# Altium schematic symbol library SCH - MCU - STM32 - ST MICROELECTRONICS STM32C031C(4-6)TX LQFP48.SchLib: 1 symbol
Pins are listed as number, name and electrical type; pins without a type are passive.

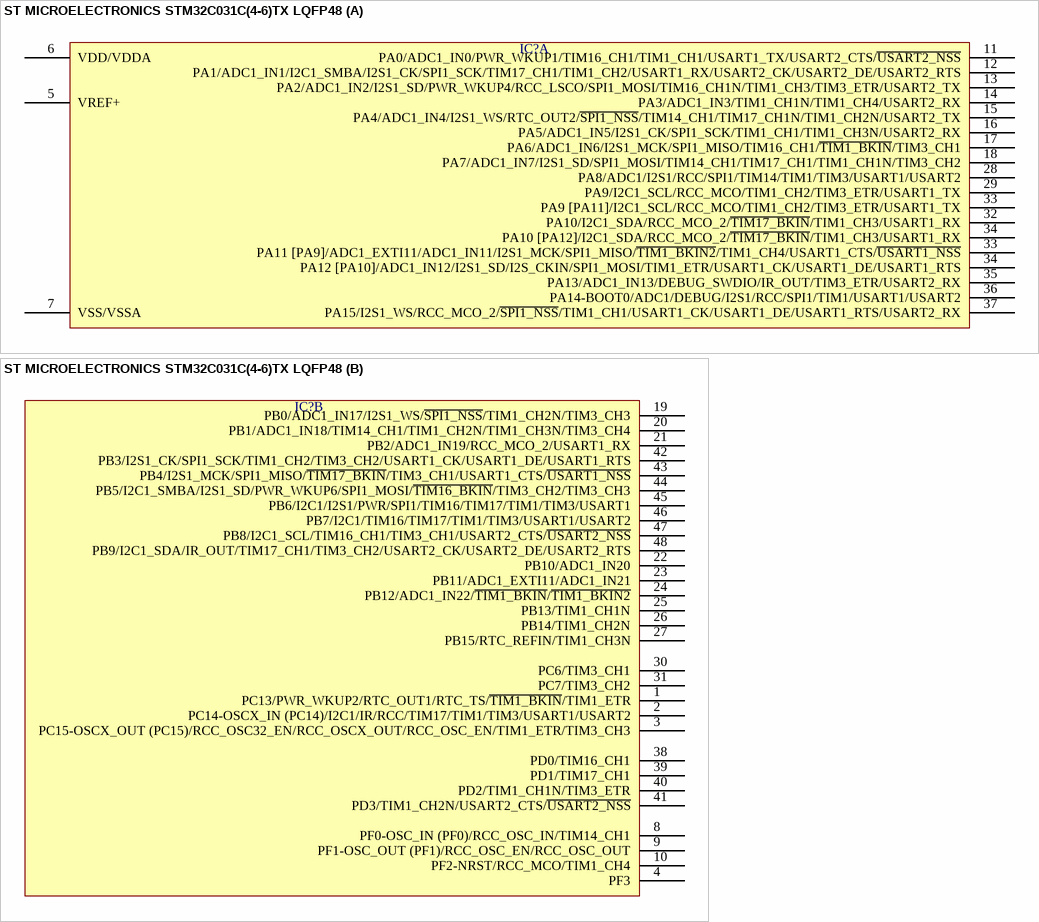
[diagram p0: symbol ST MICROELECTRONICS STM32C031C(4-6)TX LQFP48]

## ST MICROELECTRONICS STM32C031C(4-6)TX LQFP48
designator IC?  (value not drawn)
part A pins: 5 VREF+, 6 VDD/VDDA, 7 VSS/VSSA, 11 PA0/ADC1_IN0/PWR_WKUP1/TIM16_CH1/TIM1_CH1/USART1_TX/USART2_CTS/~{USART2_NSS}, 12 PA1/ADC1_IN1/I2C1_SMBA/I2S1_CK/SPI1_SCK/TIM17_CH1/TIM1_CH2/USART1_RX/USART2_CK/USART2_DE/USART2_RTS, 13 PA2/ADC1_IN2/I2S1_SD/PWR_WKUP4/RCC_LSCO/SPI1_MOSI/TIM16_CH1N/TIM1_CH3/TIM3_ETR/USART2_TX, 14 PA3/ADC1_IN3/TIM1_CH1N/TIM1_CH4/USART2_RX, 15 PA4/ADC1_IN4/I2S1_WS/RTC_OUT2/~{SPI1_NSS}/TIM14_CH1/TIM17_CH1N/TIM1_CH2N/USART2_TX, 16 PA5/ADC1_IN5/I2S1_CK/SPI1_SCK/TIM1_CH1/TIM1_CH3N/USART2_RX, 17 PA6/ADC1_IN6/I2S1_MCK/SPI1_MISO/TIM16_CH1/~{TIM1_BKIN}/TIM3_CH1, 18 PA7/ADC1_IN7/I2S1_SD/SPI1_MOSI/TIM14_CH1/TIM17_CH1/TIM1_CH1N/TIM3_CH2, 28 PA8/ADC1/I2S1/RCC/SPI1/TIM14/TIM1/TIM3/USART1/USART2, 29 PA9/I2C1_SCL/RCC_MCO/TIM1_CH2/TIM3_ETR/USART1_TX, 32 PA10/I2C1_SDA/RCC_MCO_2/~{TIM17_BKIN}/TIM1_CH3/USART1_RX, 33 PA9 [PA11]/I2C1_SCL/RCC_MCO/TIM1_CH2/TIM3_ETR/USART1_TX, 33 PA11 [PA9]/ADC1_EXTI11/ADC1_IN11/I2S1_MCK/SPI1_MISO/~{TIM1_BKIN2}/TIM1_CH4/USART1_CTS/~{USART1_NSS}, 34 PA10 [PA12]/I2C1_SDA/RCC_MCO_2/~{TIM17_BKIN}/TIM1_CH3/USART1_RX, 34 PA12 [PA10]/ADC1_IN12/I2S1_SD/I2S_CKIN/SPI1_MOSI/TIM1_ETR/USART1_CK/USART1_DE/USART1_RTS, 35 PA13/ADC1_IN13/DEBUG_SWDIO/IR_OUT/TIM3_ETR/USART2_RX, 36 PA14-BOOT0/ADC1/DEBUG/I2S1/RCC/SPI1/TIM1/USART1/USART2, 37 PA15/I2S1_WS/RCC_MCO_2/~{SPI1_NSS}/TIM1_CH1/USART1_CK/USART1_DE/USART1_RTS/USART2_RX
part B pins: 1 PC13/PWR_WKUP2/RTC_OUT1/RTC_TS/~{TIM1_BKIN}/TIM1_ETR, 2 PC14-OSCX_IN (PC14)/I2C1/IR/RCC/TIM17/TIM1/TIM3/USART1/USART2, 3 PC15-OSCX_OUT (PC15)/RCC_OSC32_EN/RCC_OSCX_OUT/RCC_OSC_EN/TIM1_ETR/TIM3_CH3, 4 PF3, 8 PF0-OSC_IN (PF0)/RCC_OSC_IN/TIM14_CH1, 9 PF1-OSC_OUT (PF1)/RCC_OSC_EN/RCC_OSC_OUT, 10 PF2-NRST/RCC_MCO/TIM1_CH4, 19 PB0/ADC1_IN17/I2S1_WS/~{SPI1_NSS}/TIM1_CH2N/TIM3_CH3, 20 PB1/ADC1_IN18/TIM14_CH1/TIM1_CH2N/TIM1_CH3N/TIM3_CH4, 21 PB2/ADC1_IN19/RCC_MCO_2/USART1_RX, 22 PB10/ADC1_IN20, 23 PB11/ADC1_EXTI11/ADC1_IN21, 24 PB12/ADC1_IN22/~{TIM1_BKIN}/~{TIM1_BKIN2}, 25 PB13/TIM1_CH1N, 26 PB14/TIM1_CH2N, 27 PB15/RTC_REFIN/TIM1_CH3N, 30 PC6/TIM3_CH1, 31 PC7/TIM3_CH2, 38 PD0/TIM16_CH1, 39 PD1/TIM17_CH1, 40 PD2/TIM1_CH1N/TIM3_ETR, 41 PD3/TIM1_CH2N/USART2_CTS/~{USART2_NSS}, 42 PB3/I2S1_CK/SPI1_SCK/TIM1_CH2/TIM3_CH2/USART1_CK/USART1_DE/USART1_RTS, 43 PB4/I2S1_MCK/SPI1_MISO/~{TIM17_BKIN}/TIM3_CH1/USART1_CTS/~{USART1_NSS}, 44 PB5/I2C1_SMBA/I2S1_SD/PWR_WKUP6/SPI1_MOSI/~{TIM16_BKIN}/TIM3_CH2/TIM3_CH3, 45 PB6/I2C1/I2S1/PWR/SPI1/TIM16/TIM17/TIM1/TIM3/USART1, 46 PB7/I2C1/TIM16/TIM17/TIM1/TIM3/USART1/USART2, 47 PB8/I2C1_SCL/TIM16_CH1/TIM3_CH1/USART2_CTS/~{USART2_NSS}, 48 PB9/I2C1_SDA/IR_OUT/TIM17_CH1/TIM3_CH2/USART2_CK/USART2_DE/USART2_RTS